# Altium schematic symbol library 主控PCB原理图库.SchLib: 2 symbols
Pins are listed as number, name and electrical type; pins without a type are passive.

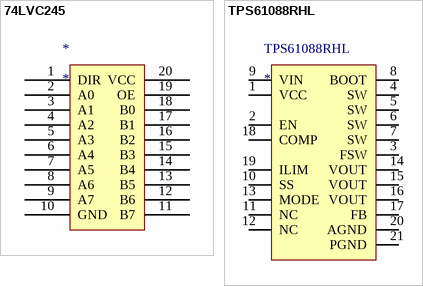
[diagram p0: symbols 74LVC245 to TPS61088RHL]

## 74LVC245
designator *
footprint TSSOP20_M (TSOP, 20-Leads, Body 6.5x4.4mm, Pitch 0.65mm, IPC Low Density)
pins: 1 DIR, 2 A0, 3 A1, 4 A2, 5 A3, 6 A4, 7 A5, 8 A6, 9 A7, 10 GND, 11 B7, 12 B6, 13 B5, 14 B4, 15 B3, 16 B2, 17 B1, 18 B0, 19 OE, 20 VCC

## TPS61088RHL
designator TPS61088RHL
footprint TPS61088
pins: 1 VCC, 2 EN, 3 FSW, 4 SW, 5 SW, 6 SW, 7 SW, 8 BOOT, 9 VIN, 10 SS, 11 NC, 12 NC, 13 MODE, 14 VOUT, 15 VOUT, 16 VOUT, 17 FB, 18 COMP, 19 ILIM, 20 AGND, 21 PGND